# Altium footprint library add-pcb-library.PcbLib: 10 footprints
Each footprint in its own frame and in the unit in brackets; x right, y up, seen from the top. Pads: shape width x height; smd on the part's side, far side on the other; paste and mask are expansions set on the pad; w line width, h text height; cw(c..) or ccw(c..) is an arc to the next point about the centre after c.
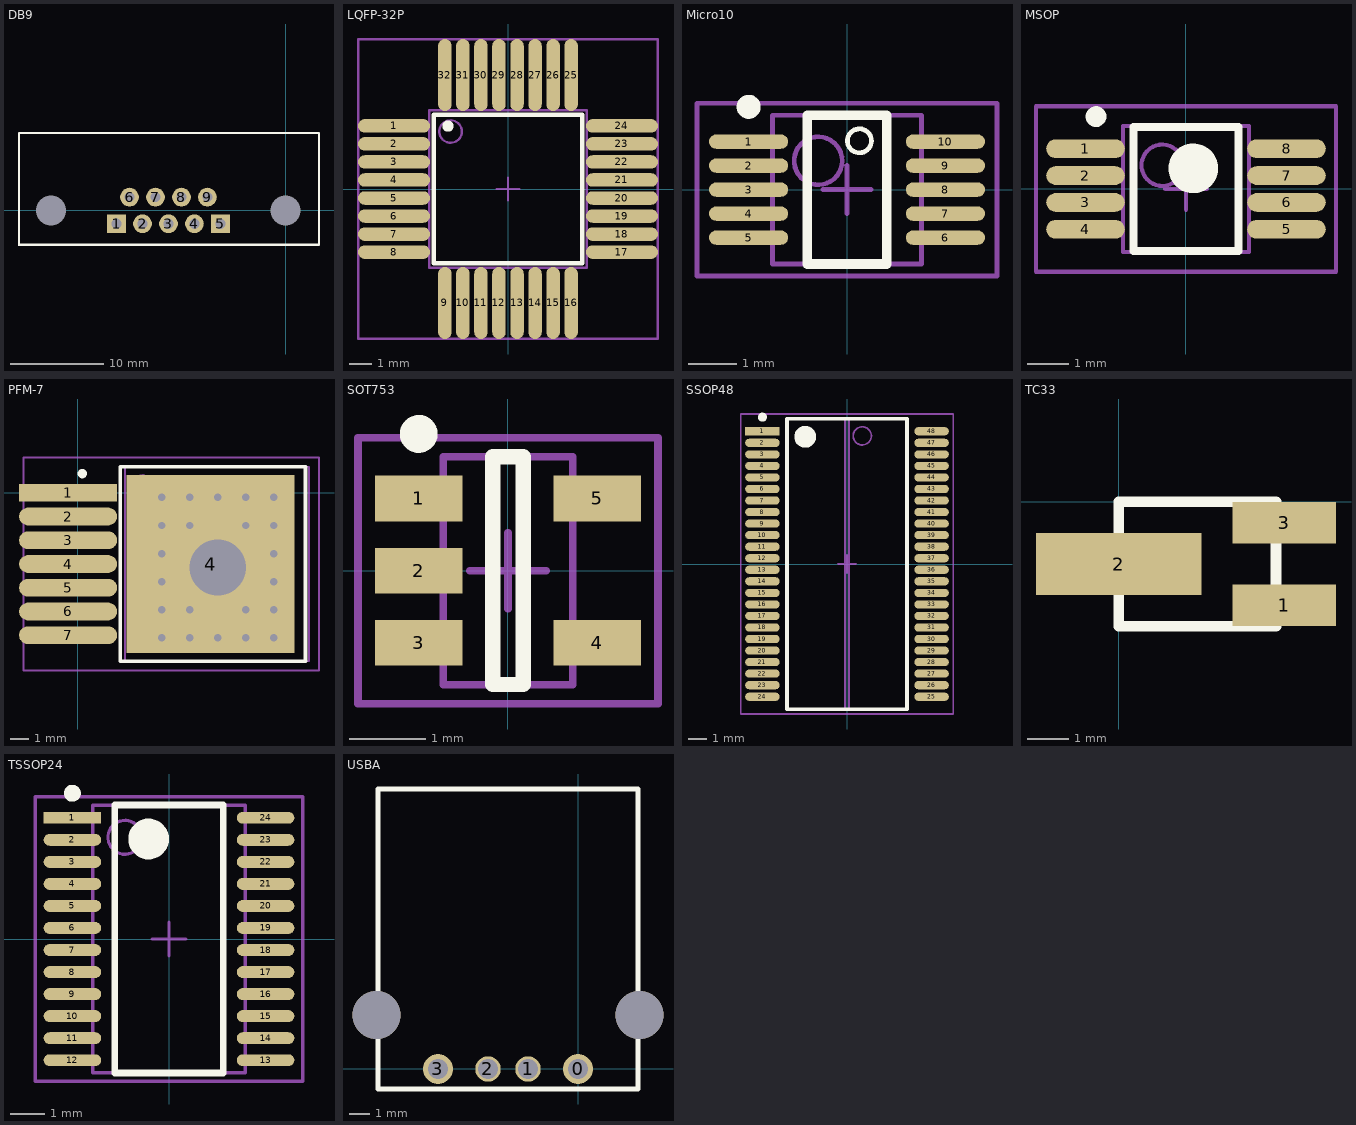
[diagram p0: the footprints below, top view; thin cyan lines are the x and y axes]

## DB9 [mm] "DB9 Serial Port connector e.g. RS 422/232 Communication"
pads (11):
  rect 2x2 hole 1.09: 1(-18.04,-1.42) 5(-6.96,-1.42)
  round 2 hole 1.09: 2(-15.27,-1.42) 3(-12.5,-1.42) 4(-9.73,-1.42) 6(-16.655,1.42) 7(-13.885,1.42) 8(-11.115,1.42) 9(-8.345,1.42)
  round 3 hole 3.2: ""(-25.035,0) ""(0,0)
Top Overlay:
  lines w0.254: -28.438,-3.683 -28.443,-3.678 ; 3.551,-3.678 -28.443,-3.678 ; 3.556,-3.673 3.556,-2.667 3.556,8.255 -28.443,8.255 -28.443,-2.662 -28.443,-3.678

## LQFP-32P [mm] "CQFP, 32-Leads, Body 11.1x11.1mm (max), Pitch 0.80mm, IPC Low Density"
height 1.6
pads (32):
  oval 3.2x0.6 smd: 1(-5.058,2.8) 2(-5.058,2) 3(-5.058,1.2) 4(-5.058,0.4) 5(-5.058,-0.4) 6(-5.058,-1.2) 7(-5.058,-2) 8(-5.058,-2.8) 17(5.058,-2.8) 18(5.058,-2) 19(5.058,-1.2) 20(5.058,-0.4) 21(5.058,0.4) 22(5.058,1.2) 23(5.058,2) 24(5.058,2.8)
  oval 0.6x3.2 smd: 9(-2.8,-5.058) 10(-2,-5.058) 11(-1.2,-5.058) 12(-0.4,-5.058) 13(0.4,-5.058) 14(1.2,-5.058) 15(2,-5.058) 16(2.8,-5.058) 25(2.8,5.058) 26(2,5.058) 27(1.2,5.058) 28(0.4,5.058) 29(-0.4,5.058) 30(-1.2,5.058) 31(-2,5.058) 32(-2.8,5.058)
Top Overlay:
  circle w0.25: c-2.665,2.794 r0.125
  lines w0.2: -3.302,-3.302 3.302,-3.302 3.302,3.302 -3.302,3.302 -3.302,-3.302
Mechanical 13:
  circle w0.1: c-2.55,2.55 r0.5
  lines w0.1: -3.5,-3.5 3.5,-3.5 3.5,3.5 -3.5,3.5 -3.5,-3.5
Mechanical 15:
  lines w0.1: -0.5,0 0.5,0 ; 0,-0.5 0,0.5 ; -6.65,-6.65 6.65,-6.65 6.65,6.65 -6.65,6.65 -6.65,-6.65
3D body: height 1.6, standoff 0.25, extent -3.5,-3.5 3.5,3.5

## Micro10 [mm] "Micro10 package for e.g. nlas4684"
height 1.1
pads (10):
  oval 1.65x0.3 smd: 1(-2.05,1) 2(-2.05,0.5) 3(-2.05,0) 4(-2.05,-0.5) 5(-2.05,-1) 6(2.05,-1) 7(2.05,-0.5) 8(2.05,0) 9(2.05,0.5) 10(2.05,1)
Top Overlay:
  circle w0.25: c-2.05,1.725 r0.125
  circle w0.1: c0.258,1.016 r0.25
  lines w0.2: -0.825,-1.55 -0.825,1.55 0.825,1.55 0.825,-1.55 -0.825,-1.55
Mechanical 13:
  circle w0.1: c-0.6,0.6 r0.5
  lines w0.1: -1.55,-1.55 -1.55,1.55 1.55,1.55 1.55,-1.55 -1.55,-1.55
Mechanical 15:
  lines w0.1: -0.5,0 0.5,0 ; 0,-0.5 0,0.5 ; -3.125,-1.8 -3.125,1.8 3.125,1.8 3.125,-1.8 -3.125,-1.8
3D body: height 1.1, standoff 0.1, extent -1.55,-1.55 1.55,1.55

## MSOP [mm] "MSOP, 8-Leads, Body 3.0x3.0mm (max), Pitch 0.65mm, IPC Low Density. For RS-422 transceivers."
height 1.1
pads (8):
  oval 1.9x0.45 smd: 1(-2.429,0.975) 2(-2.429,0.325) 3(-2.429,-0.325) 4(-2.429,-0.975) 5(2.429,-0.975) 6(2.429,-0.325) 7(2.429,0.325) 8(2.429,0.975)
Top Overlay:
  circle w0.6: c0.175,0.5 r0.3
  circle w0.25: c-2.175,1.75 r0.125
  lines w0.2: -1.27,-1.5 1.27,-1.5 1.27,1.5 -1.27,1.5 -1.27,-1.5
Mechanical 13:
  circle w0.1: c-0.575,0.575 r0.5
  lines w0.1: -1.525,-1.525 1.525,-1.525 1.525,1.525 -1.525,1.525 -1.525,-1.525
Mechanical 15:
  lines w0.1: -0.5,0 0.5,0 ; 0,-0.5 0,0.5 ; -3.625,-2 3.625,-2 3.625,2 -3.625,2 -3.625,-2
3D body: height 1.1, standoff 0.2, extent -1.525,-1.525 1.525,1.525

## PFM-7 [mm] "SOP, 14-Leads, Body 10.4x9.9mm (max), Pitch 1.27mm, IPC Low Density"
height 4.57
pads (8):
  rect 5.25x0.95 smd: 1(-0.508,0)
  oval 5.25x0.95 smd: 2(-0.508,-1.27) 3(-0.508,-2.54) 4(-0.508,-3.81) 5(-0.508,-5.08) 6(-0.508,-6.35) 7(-0.508,-7.62)
  rect 9x9.5 smd: 4(7.112,-3.81)
via 4.5,-7.75 diameter 0.8 hole 0.4
via 6,-7.75 diameter 0.8 hole 0.4
via 7.5,-7.75 diameter 0.8 hole 0.4
via 9,-7.75 diameter 0.8 hole 0.4
via 10.5,-7.75 diameter 0.8 hole 0.4
via 9,-6.25 diameter 0.8 hole 0.4
via 6,-6.25 diameter 0.8 hole 0.4
via 4.5,-6.25 diameter 0.8 hole 0.4
via 4.5,-4.75 diameter 0.8 hole 0.4
via 4.5,-3.25 diameter 0.8 hole 0.4
via 4.5,-1.75 diameter 0.8 hole 0.4
via 6,-1.75 diameter 0.8 hole 0.4
via 9,-1.75 diameter 0.8 hole 0.4
via 10.5,-6.25 diameter 0.8 hole 0.4
via 10.5,-4.75 diameter 0.8 hole 0.4
via 10.5,-3.25 diameter 0.8 hole 0.4
via 10.5,-1.75 diameter 0.8 hole 0.4
via 9,-0.25 diameter 0.8 hole 0.4
via 7.5,-0.25 diameter 0.8 hole 0.4
via 6,-0.25 diameter 0.8 hole 0.4
via 4.5,-0.25 diameter 0.8 hole 0.4
via 10.5,-0.25 diameter 0.8 hole 0.4
via 7.5,-4 diameter 3.75 hole 3
Top Overlay:
  circle w0.25: c0.254,1.025 r0.125
  lines w0.2: 2.286,-9.01 12.192,-9.01 12.192,1.39 2.286,1.39 2.286,-9.01
Mechanical 13:
  circle w0.1: c3.479,0.445 r0.5
  lines w0.1: 2.529,-9.015 12.379,-9.015 12.379,1.395 2.529,1.395 2.529,-9.015
Mechanical 15:
  lines w0.1: 6.954,-3.81 7.954,-3.81 ; 7.454,-4.31 7.454,-3.31 ; -2.896,-9.51 12.915,-9.51 12.915,1.89 -2.896,1.89 -2.896,-9.51
3D body: height 4.57, standoff 0.7, extent 2.529,-9.015 12.379,1.395

## SOT753 [mm] "SOT753, 5-Leads, Body 3.0x3.0mm (max), Pitch 0.95mm, IPC Medium Density"
height 1.1
pads (5):
  rect 1.15x0.6 smd: 1(-1.175,0.95) 2(-1.175,0) 3(-1.175,-0.95) 4(1.175,-0.95) 5(1.175,0.95)
Top Overlay:
  circle w0.25: c-1.175,1.8 r0.125
  lines w0.2: -0.2,-1.5 0.2,-1.5 0.2,1.5 -0.2,1.5 -0.2,-1.5
Mechanical 13:
  lines w0.1: -0.85,-1.5 -0.85,1.5 0.85,1.5 0.85,-1.5 -0.85,-1.5
Mechanical 15:
  lines w0.1: -0.5,0 0.5,0 ; 0,-0.5 0,0.5 ; -1.975,-1.75 -1.975,1.75 1.975,1.75 1.975,-1.75 -1.975,-1.75
3D body: height 1.1, standoff 0.1, extent -0.85,-1.5 0.85,1.5

## SSOP48 [mm] "SOP, 48-Leads, Body 16.0x0.2mm (max), Pitch 0.63mm, IPC Medium Density (e.g. Philips GTL2000 CMOS level shifter)"
height 2.8
pads (48):
  rect 1.9x0.45 smd: 1(-4.65,7.302)
  oval 1.9x0.45 smd: 2(-4.65,6.667) 3(-4.65,6.032) 4(-4.65,5.397) 5(-4.65,4.763) 6(-4.65,4.127) 7(-4.65,3.492) 8(-4.65,2.857) 9(-4.65,2.222) 10(-4.65,1.587) 11(-4.65,0.953) 12(-4.65,0.318) 13(-4.65,-0.318) 14(-4.65,-0.953) 15(-4.65,-1.587) 16(-4.65,-2.222) 17(-4.65,-2.857) 18(-4.65,-3.492) 19(-4.65,-4.127) 20(-4.65,-4.763) 21(-4.65,-5.397) 22(-4.65,-6.032) 23(-4.65,-6.667) 24(-4.65,-7.302) 25(4.65,-7.302) 26(4.65,-6.667) 27(4.65,-6.032) 28(4.65,-5.397) 29(4.65,-4.763) 30(4.65,-4.127) 31(4.65,-3.492) 32(4.65,-2.857) 33(4.65,-2.222) 34(4.65,-1.587) 35(4.65,-0.953) 36(4.65,-0.318) 37(4.65,0.318) 38(4.65,0.953) 39(4.65,1.587) 40(4.65,2.222) 41(4.65,2.857) 42(4.65,3.492) 43(4.65,4.127) 44(4.65,4.763) 45(4.65,5.397) 46(4.65,6.032) 47(4.65,6.667) 48(4.65,7.302)
Top Overlay:
  circle w0.25: c-4.65,8.077 r0.125
  circle w0.6: c-2.3,7 r0.3
  lines w0.2: -3.3,-8 -3.3,8 3.3,8 3.3,-8 -3.3,-8
Mechanical 13:
  circle w0.1: c0.84,7.05 r0.5
  lines w0.1: -0.11,-8 -0.11,8 0.11,8 0.11,-8 -0.11,-8
Mechanical 15:
  lines w0.1: -0.5,0 0.5,0 ; 0,-0.5 0,0.5 ; -5.85,-8.25 -5.85,8.25 5.85,8.25 5.85,-8.25 -5.85,-8.25
3D body: height 2.8, standoff 0.4, extent -0.11,-8 0.11,8

## TC33 [mm] "TC33 - 3mm SMD Trimming Pot"
pads (3):
  rect 2.5x1 smd: 1(4,-2.5) 3(4,-0.5)
  rect 4x1.5 smd: 2(0,-1.5)
Top Overlay:
  lines w0.254: 0,-3 3.8,-3 3.8,0 0,0 0,-3

## TSSOP24 [mm]
height 1.2
pads (24):
  rect 1.7x0.35 smd: 1(-2.85,3.575)
  oval 1.7x0.35 smd: 2(-2.85,2.925) 3(-2.85,2.275) 4(-2.85,1.625) 5(-2.85,0.975) 6(-2.85,0.325) 7(-2.85,-0.325) 8(-2.85,-0.975) 9(-2.85,-1.625) 10(-2.85,-2.275) 11(-2.85,-2.925) 12(-2.85,-3.575) 13(2.85,-3.575) 14(2.85,-2.925) 15(2.85,-2.275) 16(2.85,-1.625) 17(2.85,-0.975) 18(2.85,-0.325) 19(2.85,0.325) 20(2.85,0.975) 21(2.85,1.625) 22(2.85,2.275) 23(2.85,2.925) 24(2.85,3.575)
Top Overlay:
  circle w0.25: c-2.85,4.3 r0.125
  circle w0.6: c-0.6,2.95 r0.3
  lines w0.2: -1.6,-3.95 -1.6,3.95 1.6,3.95 1.6,-3.95 -1.6,-3.95
Mechanical 13:
  circle w0.1: c-1.3,3 r0.5
  lines w0.1: -2.25,-3.95 -2.25,3.95 2.25,3.95 2.25,-3.95 -2.25,-3.95
Mechanical 15:
  lines w0.1: -0.5,0 0.5,0 ; 0,-0.5 0,0.5 ; -3.95,-4.2 -3.95,4.2 3.95,4.2 3.95,-4.2 -3.95,-4.2
3D body: height 1.2, standoff 0.25, extent -2.25,-3.95 2.25,3.95

## USBA [mm] "Usb Male Type connector (e.g. to connect to the tablet)"
pads (4):
  round 1.5 hole 0.98: 0(0,0) 3(-7,0)
  round 1.27 hole 0.98: 1(-2.5,0) 2(-4.5,0)
via -10.07,2.71 diameter 2.4 hole 2.4
via 3.07,2.71 diameter 2.4 hole 2.4
Top Layer:
  lines w0.254: -7.36,0 -7,0 -7.36,0
Top Overlay:
  lines w0.254: -10,-1 -10,14 3,14 3,-1 -10,-1